# Altium schematic symbol library POWER DIODE.SchLib: 1 symbol
Pins are listed as number, name and electrical type; pins without a type are passive.

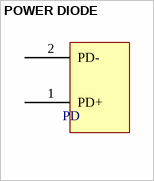
[diagram p0: symbol POWER DIODE]

## POWER DIODE
designator PD
footprint power diode
pins: 1 PD+, 2 PD-